# EAGLE library part SX1308_B628 (library HumanoidLbr)
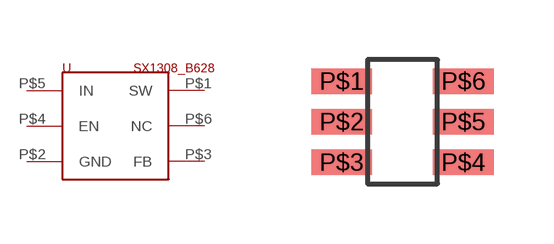
[diagram p1: symbol with the pads of SOT23-6; footprint SOT23-6]

Designator prefix U

## SX1308_B628  [SOT23-6]
P$1  SW
P$2  GND
P$3  FB
P$4  EN
P$5  IN
P$6  NC

## Footprint SOT23-6 (pad centres in mm)
smd 1.524 x 0.635: P$1 -1.524,1.016; P$2 -1.524,0; P$3 -1.524,-1.016; P$4 1.524,-1.016; P$5 1.524,0; P$6 1.524,1.016